# Altium schematic symbol library 1190365.SchLib: 1 symbol
Pins are listed as number, name and electrical type; pins without a type are passive.

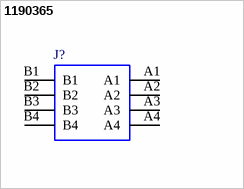
[diagram p0: symbol 1190365]

## 1190365
designator J?
Fixed Terminal Blocks LPTA 2,5/ 4-5,0; Manufacturer_Name: Phoenix Contact; Geometry.Height: 22.65mm; Mouser Part Number: 651-1190365; Mouser Price/Stock: https://www.mouser.co.uk/ProductDetail/Phoenix-Contact/1190365?qs=QNEnbhJQKvbYhaie4VzA2g%3D%3D; Manufacturer_Part_Number: 1190365; Datasheet Link: https://www.phoenixcontact.com/en-il/products/printed-circuit-board-terminal-lpta-25-4-50-1190365
footprint 1190365
pins: A1, A2, A3, A4, B1, B2, B3, B4